# Altium footprint library INOLUX_INND-TS56.PcbLib: 1 footprints
Each footprint in its own frame and in the unit in brackets; x right, y up, seen from the top. Pads: shape width x height; smd on the part's side, far side on the other; paste and mask are expansions set on the pad; w line width, h text height; cw(c..) or ccw(c..) is an arc to the next point about the centre after c.
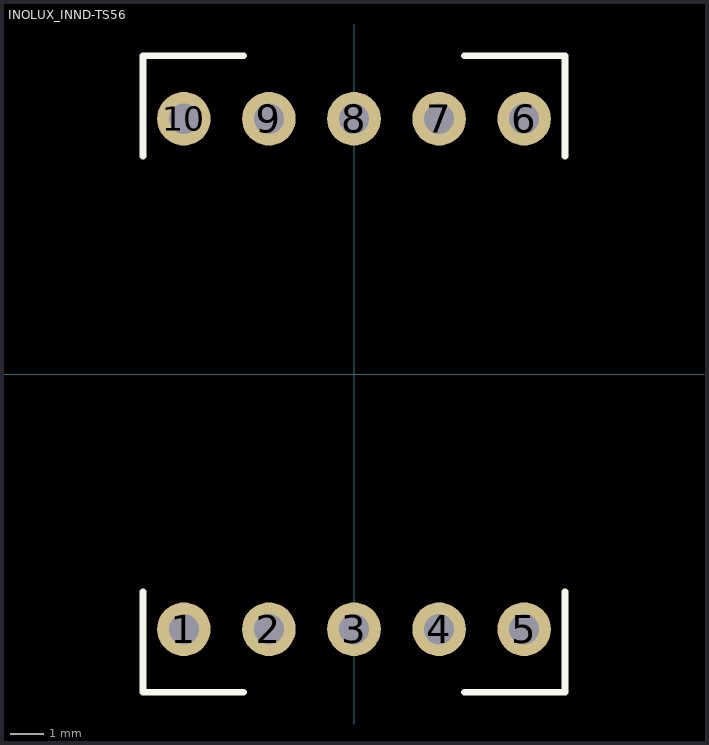
[diagram p0: the footprint, top view; thin cyan lines are the x and y axes]

## INOLUX_INND-TS56 [mm]
pads (10):
  round 1.6 hole 0.9: 1(-5.08,-7.62) 2(-2.54,-7.62) 3(0,-7.62) 4(2.54,-7.62) 5(5.08,-7.62) 6(5.08,7.62) 7(2.54,7.62) 8(0,7.62) 9(-2.54,7.62) 10(-5.08,7.62)
Top Overlay:
  lines w0.2: -6.3,-6.5 -6.3,-9.5 -3.3,-9.5 ; -6.3,6.5 -6.3,9.5 -3.3,9.5 ; 3.3,-9.5 6.3,-9.5 6.3,-6.5 ; 3.3,9.5 6.3,9.5 6.3,6.5
3D body: height 8, standoff 0, extent -6.3,-9.5 6.3,9.5